# Altium integrated library lib_nvidia.IntLib: 2 symbols
Pins are listed as number, name and electrical type; pins without a type are passive.

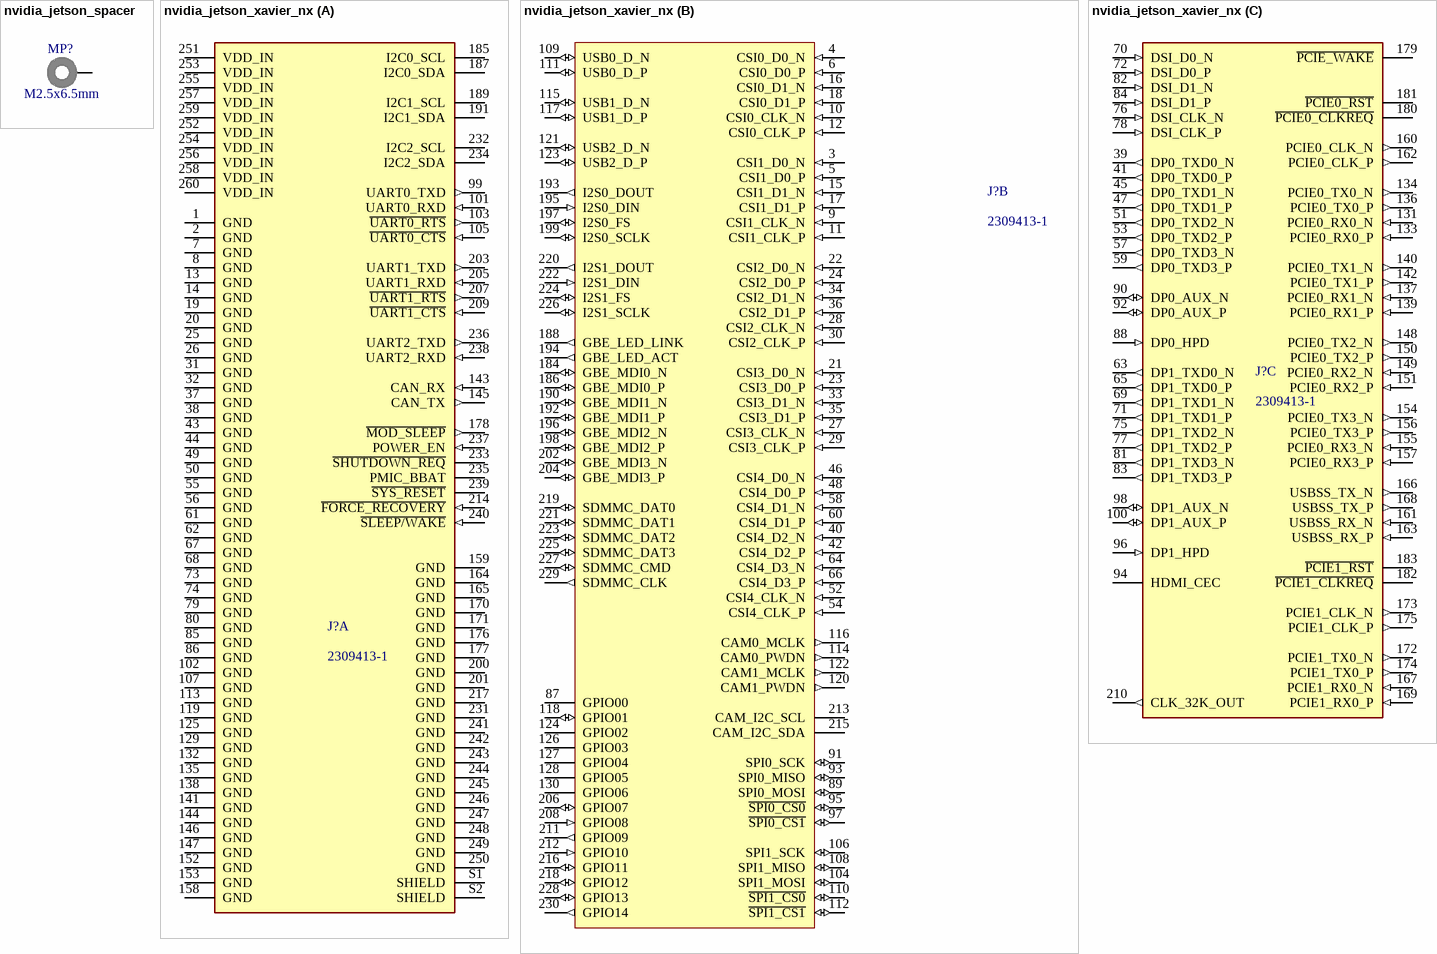
[diagram p0: symbols nvidia_jetson_spacer to nvidia_jetson_xavier_nx]

## nvidia_jetson_spacer
designator MP?, comment M2.5x6.5mm
WA-SMSI SMT Steel Spacer, M2.5 Thread Internal, OD 5.1mm, M2.5x6.5mm; Manufacturer Part Number: 9774065151; Manufacturer: Wurth Elektronik; Inner Diameter: 3.5mm; Surface: Tin; ComponentLink1Description: Manufacturer; ComponentLink1URL: http://www.we-online.de; ComponentLink2Description: Datasheet; ComponentLink2URL: https://www.we-online.com/catalog/datasheet/9774065151.pdf; Mounting Technology: SMT; Packaging: Bulk; Length: 6.5mm; Inner Thread Length: -; Operating Temperature: -55 to +150degC; Outer Diameter: 5.1mm; Published Date: April 2020; Material: Steel; Thread: M2.5
footprint 9774065151 (SMT Steel Spacer with internal Thread M2.5, height 6.5mm)
pins: 1

## nvidia_jetson_xavier_nx
designator J?, comment 2309413-1
NVIDIA Jetson Xavier NX System-on-Module Volta GPU + Carmel CPU+ 8GB LPDDR4x + 16GB eMMC 5.1; Product_Type: Socket; MF: TE Connectivity; Centerline_Pitch: .5 mm[.0197 in]; Number_of_Positions: 260; SnapEDA_Link: https://www.snapeda.com/parts/2309413-1/TE%20Connectivity%20AMP%20Connectors/view-part/2381121/?ref=snap; TE_purchase_URL: https://www.te.com/usa-en/product-2309413-1.html?te_bu=Cor&te_type=disp&te_campaign=seda_glo_cor-seda-global-disp-prtnr-fy19-seda-model-bom-cta_sma-317_1&elqCampaignId=32493; Value: *; Price: None; Availability: Unavailable; EU_RoHS_Compliance: Compliant; MP: 2309413-1; Package: None
footprint TE_2309413-1
part A pins: 1 GND (power), 2 GND (power), 7 GND (power), 8 GND (power), 13 GND (power), 14 GND (power), 19 GND (power), 20 GND (power), 25 GND (power), 26 GND (power), 31 GND (power), 32 GND (power), 37 GND (power), 38 GND (power), 43 GND (power), 44 GND (power), 49 GND (power), 50 GND (power), 55 GND (power), 56 GND (power), 61 GND (power), 62 GND (power), 67 GND (power), 68 GND (power), 73 GND (power), 74 GND (power), 79 GND (power), 80 GND (power), 85 GND (power), 86 GND (power), 99 UART0_TXD (out), 101 UART0_RXD (in), 102 GND (power), 103 ~{UART0_RTS} (out), 105 ~{UART0_CTS} (in), 107 GND (power), 113 GND (power), 119 GND (power), 125 GND (power), 129 GND (power), 132 GND (power), 135 GND (power), 138 GND (power), 141 GND (power), 143 CAN_RX (in), 144 GND (power), 145 CAN_TX (out), 146 GND (power), 147 GND (power), 152 GND (power), 153 GND (power), 158 GND (power), 159 GND (power), 164 GND (power), 165 GND (power), 170 GND (power), 171 GND (power), 176 GND (power), 177 GND (power), 178 ~{MOD_SLEEP} (out), 185 I2C0_SCL (oc), 187 I2C0_SDA (oc), 189 I2C1_SCL (oc) "CMOS - 3.3V", 191 I2C1_SDA (oc), 200 GND (power), 201 GND (power), 203 UART1_TXD (out), 205 UART1_RXD (in), 207 ~{UART1_RTS} (out), 209 ~{UART1_CTS} (in), 214 ~{FORCE_RECOVERY} (in), 217 GND (power), 231 GND (power), 232 I2C2_SCL (oc), 233 ~{SHUTDOWN_REQ} (oc), 234 I2C2_SDA (oc), 235 PMIC_BBAT (power), 236 UART2_TXD (out), 237 POWER_EN (in), 238 UART2_RXD (in), 239 ~{SYS_RESET} (oc), 240 ~{SLEEP/WAKE} (in), 241 GND (power), 242 GND (power), 243 GND (power), 244 GND (power), 245 GND (power), 246 GND (power), 247 GND (power), 248 GND (power), 249 GND (power), 250 GND (power), 251 VDD_IN (power), 252 VDD_IN (power), 253 VDD_IN (power), 254 VDD_IN (power), 255 VDD_IN (power), 256 VDD_IN (power), 257 VDD_IN (power), 258 VDD_IN (power), 259 VDD_IN (power), 260 VDD_IN (power), S1 SHIELD, S2 SHIELD
part B pins: 3 CSI1_D0_N (in), 4 CSI0_D0_N (in), 5 CSI1_D0_P (in), 6 CSI0_D0_P (in), 9 CSI1_CLK_N (in), 10 CSI0_CLK_N (in), 11 CSI1_CLK_P (in), 12 CSI0_CLK_P (in), 15 CSI1_D1_N (in), 16 CSI0_D1_N (in), 17 CSI1_D1_P (in), 18 CSI0_D1_P (in), 21 CSI3_D0_N (in), 22 CSI2_D0_N (in), 23 CSI3_D0_P (in), 24 CSI2_D0_P (in), 27 CSI3_CLK_N (in), 28 CSI2_CLK_N (in), 29 CSI3_CLK_P (in), 30 CSI2_CLK_P (in), 33 CSI3_D1_N (in), 34 CSI2_D1_N (in), 35 CSI3_D1_P (in), 36 CSI2_D1_P (in), 40 CSI4_D2_N (in), 42 CSI4_D2_P (in), 46 CSI4_D0_N (in), 48 CSI4_D0_P (in), 52 CSI4_CLK_N (in), 54 CSI4_CLK_P (in), 58 CSI4_D1_N (in), 60 CSI4_D1_P (in), 64 CSI4_D3_N (in), 66 CSI4_D3_P (in), 87 GPIO00 (oc), 89 SPI0_MOSI (io), 91 SPI0_SCK (io), 93 SPI0_MISO (io), 95 ~{SPI0_CS0} (io), 97 ~{SPI0_CS1} (io), 104 SPI1_MOSI (io), 106 SPI1_SCK (io), 108 SPI1_MISO (io), 109 USB0_D_N (io), 110 ~{SPI1_CS0} (io), 111 USB0_D_P (io), 112 ~{SPI1_CS1} (io), 114 CAM0_PWDN (out), 115 USB1_D_N (io), 116 CAM0_MCLK (out), 117 USB1_D_P (io), 118 GPIO01 (io), 120 CAM1_PWDN (out), 121 USB2_D_N (io), 122 CAM1_MCLK (out), 123 USB2_D_P (io), 124 GPIO02, 126 GPIO03, 127 GPIO04, 128 GPIO05, 130 GPIO06, 184 GBE_MDI0_N (io), 186 GBE_MDI0_P (io), 188 GBE_LED_LINK (out), 190 GBE_MDI1_N (io), 192 GBE_MDI1_P (io), 193 I2S0_DOUT (out), 194 GBE_LED_ACT (out), 195 I2S0_DIN (in), 196 GBE_MDI2_N (io), 197 I2S0_FS (io), 198 GBE_MDI2_P (io), 199 I2S0_SCLK (io), 202 GBE_MDI3_N (io), 204 GBE_MDI3_P (io), 206 GPIO07 (io), 208 GPIO08 (in), 211 GPIO09 (out), 212 GPIO10 (in), 213 CAM_I2C_SCL (oc), 215 CAM_I2C_SDA (oc), 216 GPIO11 (io), 218 GPIO12 (io), 219 SDMMC_DAT0 (io), 220 I2S1_DOUT (out), 221 SDMMC_DAT1 (io), 222 I2S1_DIN (in), 223 SDMMC_DAT2 (io), 224 I2S1_FS (io), 225 SDMMC_DAT3 (io), 226 I2S1_SCLK (io), 227 SDMMC_CMD (io), 228 GPIO13 (io), 229 SDMMC_CLK (out), 230 GPIO14 (out)
part C pins: 39 DP0_TXD0_N (out), 41 DP0_TXD0_P (out), 45 DP0_TXD1_N (out), 47 DP0_TXD1_P (out), 51 DP0_TXD2_N (out), 53 DP0_TXD2_P (out), 57 DP0_TXD3_N (out), 59 DP0_TXD3_P (out), 63 DP1_TXD0_N (out), 65 DP1_TXD0_P (out), 69 DP1_TXD1_N (out), 70 DSI_D0_N (in), 71 DP1_TXD1_P (out), 72 DSI_D0_P (in), 75 DP1_TXD2_N (out), 76 DSI_CLK_N (in), 77 DP1_TXD2_P (out), 78 DSI_CLK_P (in), 81 DP1_TXD3_N (out), 82 DSI_D1_N (in), 83 DP1_TXD3_P (out), 84 DSI_D1_P (in), 88 DP0_HPD (in), 90 DP0_AUX_N (io), 92 DP0_AUX_P (io), 94 HDMI_CEC (oc), 96 DP1_HPD (in), 98 DP1_AUX_N (io), 100 DP1_AUX_P (io), 131 PCIE0_RX0_N (in), 133 PCIE0_RX0_P (in), 134 PCIE0_TX0_N (out), 136 PCIE0_TX0_P (out), 137 PCIE0_RX1_N (in), 139 PCIE0_RX1_P (in), 140 PCIE0_TX1_N (out), 142 PCIE0_TX1_P (out), 148 PCIE0_TX2_N (out), 149 PCIE0_RX2_N (in), 150 PCIE0_TX2_P (out), 151 PCIE0_RX2_P (in), 154 PCIE0_TX3_N (out), 155 PCIE0_RX3_N (in), 156 PCIE0_TX3_P (out), 157 PCIE0_RX3_P (in), 160 PCIE0_CLK_N (out), 161 USBSS_RX_N (in), 162 PCIE0_CLK_P (out), 163 USBSS_RX_P (in), 166 USBSS_TX_N (out), 167 PCIE1_RX0_N (in), 168 USBSS_TX_P (out), 169 PCIE1_RX0_P (in), 172 PCIE1_TX0_N (out), 173 PCIE1_CLK_N (out), 174 PCIE1_TX0_P (out), 175 PCIE1_CLK_P (out), 179 ~{PCIE_WAKE} (oc), 180 ~{PCIE0_CLKREQ} (oc), 181 ~{PCIE0_RST} (oc), 182 ~{PCIE1_CLKREQ} (oc), 183 ~{PCIE1_RST} (oc), 210 CLK_32K_OUT (out)